# EAGLE library part AD8402 (library CalvEngIO-DigitalIC)
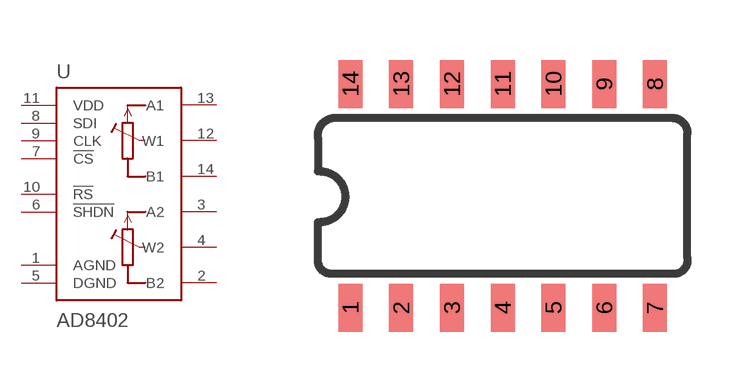
[diagram p12: symbol with the pads of SO14; footprint SO14]

Designator prefix U

## AD8402  [SO14]
1  AGND
2  B2
3  A2
4  W2
5  DGND
6  !SHDN
7  !CS
8  SDI
9  CLK
10  !RS
11  VDD
12  W1
13  A1
14  B1

## Footprint SO14 (pad centres in mm)
smd 0.6 x 1.2: 1 -3.81,-2.8; 2 -2.54,-2.8; 3 -1.27,-2.8; 4 0,-2.8; 5 1.27,-2.8; 6 2.54,-2.8; 7 3.81,-2.8; 8 3.81,2.8; 9 2.54,2.8; 10 1.27,2.8; 11 0,2.8; 12 -1.27,2.8; 13 -2.54,2.8; 14 -3.81,2.8